# Altium schematic symbol library Vishay_TLMB1100_GS08.SchLib: 1 symbol
Pins are listed as number, name and electrical type; pins without a type are passive.

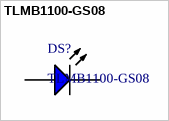
[diagram p0: symbol TLMB1100-GS08]

## TLMB1100-GS08
designator DS?
Blue LED, 10 mA, 3.9 V, -40 to 100 degC, 2-Pin SMD (0603), RoHS, Tape and Reel; Tolerance: 10%; Type (Capacitors): X7R; Voltage Rating: 100 V; Case\Package: Radial; Capacitance: 10 nF; RoHSCompliant: true; Min Operating Temperature: -55 degC; Width: 3.81 mm; Pins: 2; Height: 2.54 mm; ComponentLink1Description: Manufacturer URL; ComponentLink2Description: Datasheet; DatasheetVersion: Rev. 2.7, 03/2016; ComponentLink1URL: http://www.vishay.com/; PackageReference: 0603; Mount: Through Hole; Length: 5.33 mm; REACH SVHC: No SVHC; Radiation Hardening: No; Lead Pitch: 2.54 mm; Max Operating Temperature: 125 degC; Package Quantity: 500; ComponentLink2URL: http://download.siliconexpert.com/pdfs/2016/8/7/12/43/26/667/vsh_/manual/379263299541529tlmb1100.pdf; Packaging: Bulk; PackageDescription: 2-Pin Surface Mount Device, Body 1.6 x 0.8 mm; PartNumber: TLMB1100-GS08
footprint VISH-TLMX1100-2_V
pins: 1 A, 2 K